# EAGLE library part ACJS-MHOM (library ACJS-MHOM)
6.35mm (0.250", 1/4") - Headphone Phone Jack Stereo (3 Conductor, TRS) Connector Press-Fit, Solder Source: Datasheet <https://www.amphenol-industrial.de/media/pages/produkte/audio-steckverbinder/1-4-phone-jack-3-5mm/geratedose-3-polig-acjsmhom/8cc87383e3-1710307780/cdr-u-sap-uploads-dokumente-zu-materialnummern-20210623-audio-cdr-acjs-mhom.pdf>
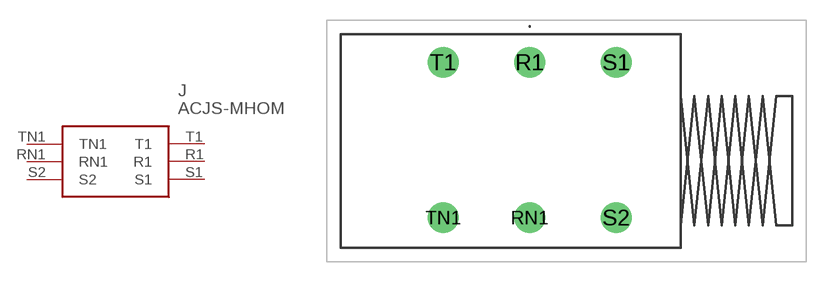
[diagram p0: symbol with the pads of ACJSMHOM; footprint ACJSMHOM]

Designator prefix J

## ACJS-MHOM (Description: 6.35mm (0.250", 1/4") - Headphone Phone Jack Stereo (3 Conductor, TRS) Connector Press-Fit, Solder; Height: 12.9mm; Manufacturer_Name: Amphenol Sine Systems; Manufacturer_Part_Number: ACJS-MHOM; Mouser_Part_Number: 523-ACJS-MHOM; Mouser_Price-Stock: https://www.mouser.co.uk/ProductDetail/Amphenol-Audio/ACJS-MHOM?qs=t8VhaDIDl4vZ9ROsgrVY0w%3D%3D)  [ACJSMHOM]
R1  R1
RN1  RN1
S1  S1
S2  S2
T1  T1
TN1  TN1

## Footprint ACJSMHOM (pad centres in mm)
ACJS-MHOM-4
drill 1.5 pad 2.25: R1 0,0; RN1 0,-11.43; S1 6.35,0; S2 6.35,-11.43; T1 -6.35,0; TN1 -6.35,-11.43